# Altium integrated library STMicroelectronics STM32 F0.IntLib: 57 symbols (part 2 of 5)
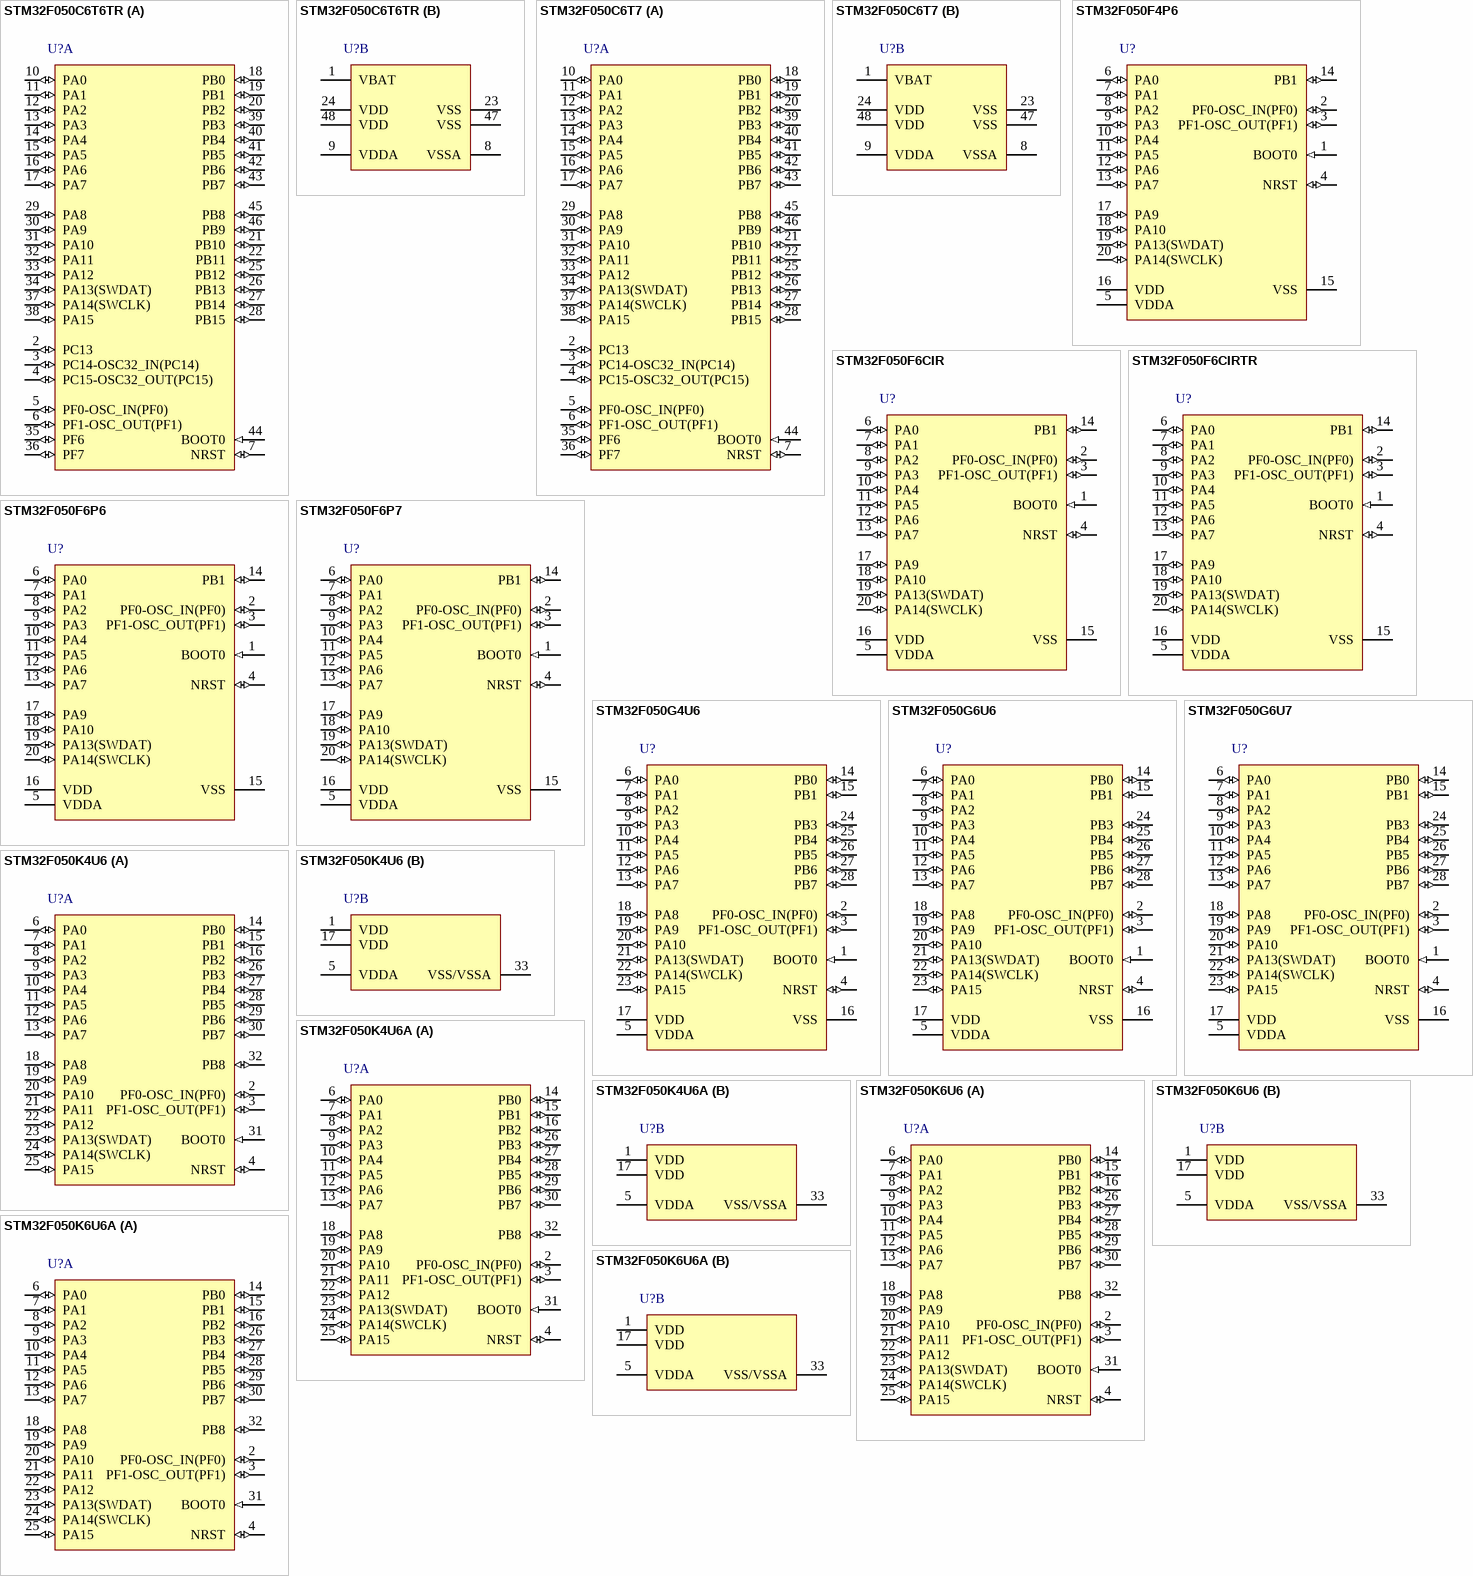
[diagram p6: symbols STM32F050C6T6TR to STM32F050K6U6A]

## STM32F050F6P6
designator U?
ARM Cortex-M0 32-bit MCU, 32 KB Flash, 4 KB Internal RAM, 15 I/Os, 20-pin TSSOP, -40 to 85 degC, Tube; PartNumber: STM32F050F6P6; FLASH Size (Prog) (kB): 32; I/Os (High Current): 15; Internal RAM Size (kB): 4; Operating Frequency(F) (Processor speed) (MHz): 48; Supply Voltage(Vcc) min (V): 2; DatasheetVersion: Rev. 1; PackageVersion: Rev. 1, 11/2012; PackageReference: TSSOP20; PackageDescription: 20-Pin Thin Shrink Small Outline Package, 6.5 x 4.4 mm Body, 0.65 mm Pitch; Supplier 1: Digi-Key; Supplier Part Number 1: STM32F050F6P6-ND; Supplier 2: Farnell; Supplier Part Number 2: 2333136; Supplier 3: Newark; Supplier Part Number 3: 99W9749; Supplier 4: Newark; Supplier Part Number 4: 89W1489; Supplier 5: Mouser; Supplier Part Number 5: 511-STM32F050F6P6; Core: ARM Cortex-M0; Packing: Tube; Mounting Technology: Surface Mount; ComponentLink1Description: Manufacturer URL; ComponentLink1URL: http://www.st.com/web/en/home.html; ComponentLink2Description: Datasheet; ComponentLink2URL: http://www.st.com/st-web-ui/static/active/en/resource/technical/document/datasheet/DM00065136.pdf; ComponentLink3Description: Package Specification; ComponentLink3URL: http://www.st.com/st-web-ui/static/active/en/resource/technical/document/datasheet/DM00065136.pdf
footprint STM-TSSOP20_N (SOP, 20-Leads, Body 6.6x4.5mm, Pitch 0.65mm, IPC Medium Density)
footprint STM-TSSOP20_L (SOP, 20-Leads, Body 6.6x4.5mm, Pitch 0.65mm, IPC High Density)
footprint STM-TSSOP20_M (SOP, 20-Leads, Body 6.6x4.5mm, Pitch 0.65mm, IPC Low Density)
pins: 1 BOOT0 (in) "Boot memory selection", 2 PF0-OSC_IN(PF0) (io) "PF0-OSC_IN(PF0)/OSC_IN", 3 PF1-OSC_OUT(PF1) (io) "PF1-OSC_OUT(PF1)/OSC_OUT", 4 NRST (io) "Device reset input / internal reset output (active low)", 5 VDDA (power) "Analog power supply", 6 PA0 (io) "PA0/TIM2_CH1_ETR,USART1_CTS/ADC_IN0,RTC_TAMP2,WKUP1", 7 PA1 (io) "PA1/TIM2_CH2,EVENTOUT,USART1_RTS/ADC_IN1", 8 PA2 (io) "PA2/TIM2_CH3,USART1_TX/ADC_IN2", 9 PA3 (io) "PA3/TIM2_CH4,USART1_RX/ADC_IN3", 10 PA4 (io) "PA4/SPI1_NSS,I2S1_WS,TIM14_CH1,USART1_CK/ADC_IN4", 11 PA5 (io) "PA5/SPI1_SCK,I2S1_CK,TIM2_CH1_ETR/ADC_IN5", 12 PA6 (io) "PA6/SPI1_MISO,I2S1_MCK,TIM3_CH1,TIM1_BKIN,TIM16_CH1,EVENTOUT/ADC_IN6", 13 PA7 (io) "PA7/SPI1_MOSI,I2S1_SD,TIM3_CH2,TIM14_CH1,TIM1_CH1N,TIM17_CH1,EVENTOUT/ADC_IN7", 14 PB1 (io) "PB1/TIM3_CH4,TIM14_CH1,TIM1_CH3N/ADC_IN9", 15 VSS (power) "Ground", 16 VDD (power) "Digital power supply", 17 PA9 (io) "PA9/USART1_TX,TIM1_CH2,I2C1_SCL", 18 PA10 (io) "PA10/USART1_RX,TIM1_CH3,TIM17_BKIN,I2C1_SDA", 19 PA13(SWDAT) (io) "PA13(SWDAT)/IR_OUT,SWDAT", 20 PA14(SWCLK) (io) "PA14(SWCLK)/SWCLK,USART1_TX"

## STM32F050F6P7
designator U?
ARM Cortex-M0 32-bit MCU, 32 KB Flash, 4 KB Internal RAM, 15 I/Os, 20-pin TSSOP, -40 to 105 degC, Tube; PartNumber: STM32F050F6P7; FLASH Size (Prog) (kB): 32; I/Os (High Current): 15; Internal RAM Size (kB): 4; Operating Frequency(F) (Processor speed) (MHz): 48; Supply Voltage(Vcc) min (V): 2; DatasheetVersion: Rev. 1; PackageVersion: Rev. 1, 11/2012; PackageReference: TSSOP20; PackageDescription: 20-Pin Thin Shrink Small Outline Package, 6.5 x 4.4 mm Body, 0.65 mm Pitch; Supplier 1: Newark; Supplier Part Number 1: 19X6195; Supplier 2: Mouser; Supplier Part Number 2: 511-STM32F050F6P7; Core: ARM Cortex-M0; Packing: Tube; Mounting Technology: Surface Mount; ComponentLink1Description: Manufacturer URL; ComponentLink1URL: http://www.st.com/web/en/home.html; ComponentLink2Description: Datasheet; ComponentLink2URL: http://www.st.com/st-web-ui/static/active/en/resource/technical/document/datasheet/DM00065136.pdf; ComponentLink3Description: Package Specification; ComponentLink3URL: http://www.st.com/st-web-ui/static/active/en/resource/technical/document/datasheet/DM00065136.pdf
footprint STM-TSSOP20_N (SOP, 20-Leads, Body 6.6x4.5mm, Pitch 0.65mm, IPC Medium Density)
footprint STM-TSSOP20_L (SOP, 20-Leads, Body 6.6x4.5mm, Pitch 0.65mm, IPC High Density)
footprint STM-TSSOP20_M (SOP, 20-Leads, Body 6.6x4.5mm, Pitch 0.65mm, IPC Low Density)
pins: 1 BOOT0 (in) "Boot memory selection", 2 PF0-OSC_IN(PF0) (io) "PF0-OSC_IN(PF0)/OSC_IN", 3 PF1-OSC_OUT(PF1) (io) "PF1-OSC_OUT(PF1)/OSC_OUT", 4 NRST (io) "Device reset input / internal reset output (active low)", 5 VDDA (power) "Analog power supply", 6 PA0 (io) "PA0/TIM2_CH1_ETR,USART1_CTS/ADC_IN0,RTC_TAMP2,WKUP1", 7 PA1 (io) "PA1/TIM2_CH2,EVENTOUT,USART1_RTS/ADC_IN1", 8 PA2 (io) "PA2/TIM2_CH3,USART1_TX/ADC_IN2", 9 PA3 (io) "PA3/TIM2_CH4,USART1_RX/ADC_IN3", 10 PA4 (io) "PA4/SPI1_NSS,I2S1_WS,TIM14_CH1,USART1_CK/ADC_IN4", 11 PA5 (io) "PA5/SPI1_SCK,I2S1_CK,TIM2_CH1_ETR/ADC_IN5", 12 PA6 (io) "PA6/SPI1_MISO,I2S1_MCK,TIM3_CH1,TIM1_BKIN,TIM16_CH1,EVENTOUT/ADC_IN6", 13 PA7 (io) "PA7/SPI1_MOSI,I2S1_SD,TIM3_CH2,TIM14_CH1,TIM1_CH1N,TIM17_CH1,EVENTOUT/ADC_IN7", 14 PB1 (io) "PB1/TIM3_CH4,TIM14_CH1,TIM1_CH3N/ADC_IN9", 15 VSS (power) "Ground", 16 VDD (power) "Digital power supply", 17 PA9 (io) "PA9/USART1_TX,TIM1_CH2,I2C1_SCL", 18 PA10 (io) "PA10/USART1_RX,TIM1_CH3,TIM17_BKIN,I2C1_SDA", 19 PA13(SWDAT) (io) "PA13(SWDAT)/IR_OUT,SWDAT", 20 PA14(SWCLK) (io) "PA14(SWCLK)/SWCLK,USART1_TX"

## STM32F050G4U6
designator U?
ARM Cortex-M0 32-bit MCU, 16 KB Flash, 4 KB Internal RAM, 23 I/Os, 28-pin UFQFPN, -40 to 85 degC, Tray; PartNumber: STM32F050G4U6; FLASH Size (Prog) (kB): 16; I/Os (High Current): 23; Internal RAM Size (kB): 4; Operating Frequency(F) (Processor speed) (MHz): 48; Supply Voltage(Vcc) min (V): 2; DatasheetVersion: Rev. 1; PackageVersion: Rev. 1, 11/2012; PackageReference: UFQFPN28; PackageDescription: 28-Pin Ultra Thin Fine Pitch Quad Flat No-Lead, 4 x 4 x 0.6 mm Body, 0.5 mm Pitch; Supplier 1: Digi-Key; Supplier Part Number 1: 497-13619-ND; Supplier 2: Farnell; Supplier Part Number 2: 2333137; Supplier 3: Newark; Supplier Part Number 3: 99W9750; Supplier 4: Newark; Supplier Part Number 4: 66W7272; Supplier 5: Mouser; Supplier Part Number 5: 511-STM32F050G4U6; Core: ARM Cortex-M0; Packing: Tray; Mounting Technology: Surface Mount; ComponentLink1Description: Manufacturer URL; ComponentLink1URL: http://www.st.com/web/en/home.html; ComponentLink2Description: Datasheet; ComponentLink2URL: http://www.st.com/st-web-ui/static/active/en/resource/technical/document/datasheet/DM00065136.pdf; ComponentLink3Description: Package Specification; ComponentLink3URL: http://www.st.com/st-web-ui/static/active/en/resource/technical/document/datasheet/DM00065136.pdf
footprint STM-UFQFPN28_V (QFN, 28-Leads, Body 4.1x4.1mm, Pitch 0.5mm)
pins: 1 BOOT0 (in) "Boot memory selection", 2 PF0-OSC_IN(PF0) (io) "PF0-OSC_IN(PF0)/OSC_IN", 3 PF1-OSC_OUT(PF1) (io) "PF1-OSC_OUT(PF1)/OSC_OUT", 4 NRST (io) "Device reset input / internal reset output (active low)", 5 VDDA (power) "Analog power supply", 6 PA0 (io) "PA0/TIM2_CH1_ETR,USART1_CTS/ADC_IN0,RTC_TAMP2,WKUP1", 7 PA1 (io) "PA1/TIM2_CH2,EVENTOUT,USART1_RTS/ADC_IN1", 8 PA2 (io) "PA2/TIM2_CH3,USART1_TX/ADC_IN2", 9 PA3 (io) "PA3/TIM2_CH4,USART1_RX/ADC_IN3", 10 PA4 (io) "PA4/SPI1_NSS,I2S1_WS,TIM14_CH1,USART1_CK/ADC_IN4", 11 PA5 (io) "PA5/SPI1_SCK,I2S1_CK,TIM2_CH1_ETR/ADC_IN5", 12 PA6 (io) "PA6/SPI1_MISO,I2S1_MCK,TIM3_CH1,TIM1_BKIN,TIM16_CH1,EVENTOUT/ADC_IN6", 13 PA7 (io) "PA7/SPI1_MOSI,I2S1_SD,TIM3_CH2,TIM14_CH1,TIM1_CH1N,TIM17_CH1,EVENTOUT/ADC_IN7", 14 PB0 (io) "PB0/TIM3_CH3,TIM1_CH2N,EVENTOUT/ADC_IN8", 15 PB1 (io) "PB1/TIM3_CH4,TIM14_CH1,TIM1_CH3N/ADC_IN9", 16 VSS (power) "Ground", 17 VDD (power) "Digital power supply", 18 PA8 (io) "PA8/USART1_CK,TIM1_CH1,EVENTOUT,MCO", 19 PA9 (io) "PA9/USART1_TX,TIM1_CH2,I2C1_SCL", 20 PA10 (io) "PA10/USART1_RX,TIM1_CH3,TIM17_BKIN,I2C1_SDA", 21 PA13(SWDAT) (io) "PA13(SWDAT)/IR_OUT,SWDAT", 22 PA14(SWCLK) (io) "PA14(SWCLK)/SWCLK,USART1_TX", 23 PA15 (io) "PA15/SPI1_NSS,I2S1_WS,TIM2_CH_ETR,EVENTOUT,USART1_RX", 24 PB3 (io) "PB3/SPI1_SCK,I2S1_CK,TIM2_CH2,EVENTOUT", 25 PB4 (io) "PB4/SPI1_MISO,I2S1_MCK,TIM3_CH1,EVENTOUT", 26 PB5 (io) "PB5/SPI1_MOSI,I2S1_SD,I2C1_SMBA,TIM16_BKIN,TIM3_CH2", 27 PB6 (io) "PB6/I2C1_SCL,USART1_TX,TIM16_CH1N", 28 PB7 (io) "PB7/I2C1_SDA,USART1_RX,TIM17_CH1N"

## STM32F050G6U6
designator U?
ARM Cortex-M0 32-bit MCU, 32 KB Flash, 4 KB Internal RAM, 23 I/Os, 28-pin UFQFPN, -40 to 85 degC, Tray; PartNumber: STM32F050G6U6; FLASH Size (Prog) (kB): 32; I/Os (High Current): 23; Internal RAM Size (kB): 4; Operating Frequency(F) (Processor speed) (MHz): 48; Supply Voltage(Vcc) min (V): 2; DatasheetVersion: Rev. 1; PackageVersion: Rev. 1, 11/2012; PackageReference: UFQFPN28; PackageDescription: 28-Pin Ultra Thin Fine Pitch Quad Flat No-Lead, 4 x 4 x 0.6 mm Body, 0.5 mm Pitch; Supplier 1: Digi-Key; Supplier Part Number 1: 497-13620-ND; Supplier 2: Farnell; Supplier Part Number 2: 2333138; Supplier 3: Newark; Supplier Part Number 3: 99W9751; Supplier 4: Newark; Supplier Part Number 4: 66W7273; Supplier 5: Mouser; Supplier Part Number 5: 511-STM32F050G6U6; Core: ARM Cortex-M0; Packing: Tray; Mounting Technology: Surface Mount; ComponentLink1Description: Manufacturer URL; ComponentLink1URL: http://www.st.com/web/en/home.html; ComponentLink2Description: Datasheet; ComponentLink2URL: http://www.st.com/st-web-ui/static/active/en/resource/technical/document/datasheet/DM00065136.pdf; ComponentLink3Description: Package Specification; ComponentLink3URL: http://www.st.com/st-web-ui/static/active/en/resource/technical/document/datasheet/DM00065136.pdf
footprint STM-UFQFPN28_V (QFN, 28-Leads, Body 4.1x4.1mm, Pitch 0.5mm)
pins: 1 BOOT0 (in) "Boot memory selection", 2 PF0-OSC_IN(PF0) (io) "PF0-OSC_IN(PF0)/OSC_IN", 3 PF1-OSC_OUT(PF1) (io) "PF1-OSC_OUT(PF1)/OSC_OUT", 4 NRST (io) "Device reset input / internal reset output (active low)", 5 VDDA (power) "Analog power supply", 6 PA0 (io) "PA0/TIM2_CH1_ETR,USART1_CTS/ADC_IN0,RTC_TAMP2,WKUP1", 7 PA1 (io) "PA1/TIM2_CH2,EVENTOUT,USART1_RTS/ADC_IN1", 8 PA2 (io) "PA2/TIM2_CH3,USART1_TX/ADC_IN2", 9 PA3 (io) "PA3/TIM2_CH4,USART1_RX/ADC_IN3", 10 PA4 (io) "PA4/SPI1_NSS,I2S1_WS,TIM14_CH1,USART1_CK/ADC_IN4", 11 PA5 (io) "PA5/SPI1_SCK,I2S1_CK,TIM2_CH1_ETR/ADC_IN5", 12 PA6 (io) "PA6/SPI1_MISO,I2S1_MCK,TIM3_CH1,TIM1_BKIN,TIM16_CH1,EVENTOUT/ADC_IN6", 13 PA7 (io) "PA7/SPI1_MOSI,I2S1_SD,TIM3_CH2,TIM14_CH1,TIM1_CH1N,TIM17_CH1,EVENTOUT/ADC_IN7", 14 PB0 (io) "PB0/TIM3_CH3,TIM1_CH2N,EVENTOUT/ADC_IN8", 15 PB1 (io) "PB1/TIM3_CH4,TIM14_CH1,TIM1_CH3N/ADC_IN9", 16 VSS (power) "Ground", 17 VDD (power) "Digital power supply", 18 PA8 (io) "PA8/USART1_CK,TIM1_CH1,EVENTOUT,MCO", 19 PA9 (io) "PA9/USART1_TX,TIM1_CH2,I2C1_SCL", 20 PA10 (io) "PA10/USART1_RX,TIM1_CH3,TIM17_BKIN,I2C1_SDA", 21 PA13(SWDAT) (io) "PA13(SWDAT)/IR_OUT,SWDAT", 22 PA14(SWCLK) (io) "PA14(SWCLK)/SWCLK,USART1_TX", 23 PA15 (io) "PA15/SPI1_NSS,I2S1_WS,TIM2_CH_ETR,EVENTOUT,USART1_RX", 24 PB3 (io) "PB3/SPI1_SCK,I2S1_CK,TIM2_CH2,EVENTOUT", 25 PB4 (io) "PB4/SPI1_MISO,I2S1_MCK,TIM3_CH1,EVENTOUT", 26 PB5 (io) "PB5/SPI1_MOSI,I2S1_SD,I2C1_SMBA,TIM16_BKIN,TIM3_CH2", 27 PB6 (io) "PB6/I2C1_SCL,USART1_TX,TIM16_CH1N", 28 PB7 (io) "PB7/I2C1_SDA,USART1_RX,TIM17_CH1N"

## STM32F050G6U7
designator U?
ARM Cortex-M0 32-bit MCU, 32 KB Flash, 4 KB Internal RAM, 23 I/Os, 28-pin UFQFPN, -40 to 105 degC, Tray; PartNumber: STM32F050G6U7; FLASH Size (Prog) (kB): 32; I/Os (High Current): 23; Internal RAM Size (kB): 4; Operating Frequency(F) (Processor speed) (MHz): 48; Supply Voltage(Vcc) min (V): 2; DatasheetVersion: Rev. 1; PackageVersion: Rev. 1, 11/2012; PackageReference: UFQFPN28; PackageDescription: 28-Pin Ultra Thin Fine Pitch Quad Flat No-Lead, 4 x 4 x 0.6 mm Body, 0.5 mm Pitch; Supplier 1: Mouser; Supplier Part Number 1: N/A; Core: ARM Cortex-M0; Packing: Tray; Mounting Technology: Surface Mount; ComponentLink1Description: Manufacturer URL; ComponentLink1URL: http://www.st.com/web/en/home.html; ComponentLink2Description: Datasheet; ComponentLink2URL: http://www.st.com/st-web-ui/static/active/en/resource/technical/document/datasheet/DM00065136.pdf; ComponentLink3Description: Package Specification; ComponentLink3URL: http://www.st.com/st-web-ui/static/active/en/resource/technical/document/datasheet/DM00065136.pdf
footprint STM-UFQFPN28_V (QFN, 28-Leads, Body 4.1x4.1mm, Pitch 0.5mm)
pins: 1 BOOT0 (in) "Boot memory selection", 2 PF0-OSC_IN(PF0) (io) "PF0-OSC_IN(PF0)/OSC_IN", 3 PF1-OSC_OUT(PF1) (io) "PF1-OSC_OUT(PF1)/OSC_OUT", 4 NRST (io) "Device reset input / internal reset output (active low)", 5 VDDA (power) "Analog power supply", 6 PA0 (io) "PA0/TIM2_CH1_ETR,USART1_CTS/ADC_IN0,RTC_TAMP2,WKUP1", 7 PA1 (io) "PA1/TIM2_CH2,EVENTOUT,USART1_RTS/ADC_IN1", 8 PA2 (io) "PA2/TIM2_CH3,USART1_TX/ADC_IN2", 9 PA3 (io) "PA3/TIM2_CH4,USART1_RX/ADC_IN3", 10 PA4 (io) "PA4/SPI1_NSS,I2S1_WS,TIM14_CH1,USART1_CK/ADC_IN4", 11 PA5 (io) "PA5/SPI1_SCK,I2S1_CK,TIM2_CH1_ETR/ADC_IN5", 12 PA6 (io) "PA6/SPI1_MISO,I2S1_MCK,TIM3_CH1,TIM1_BKIN,TIM16_CH1,EVENTOUT/ADC_IN6", 13 PA7 (io) "PA7/SPI1_MOSI,I2S1_SD,TIM3_CH2,TIM14_CH1,TIM1_CH1N,TIM17_CH1,EVENTOUT/ADC_IN7", 14 PB0 (io) "PB0/TIM3_CH3,TIM1_CH2N,EVENTOUT/ADC_IN8", 15 PB1 (io) "PB1/TIM3_CH4,TIM14_CH1,TIM1_CH3N/ADC_IN9", 16 VSS (power) "Ground", 17 VDD (power) "Digital power supply", 18 PA8 (io) "PA8/USART1_CK,TIM1_CH1,EVENTOUT,MCO", 19 PA9 (io) "PA9/USART1_TX,TIM1_CH2,I2C1_SCL", 20 PA10 (io) "PA10/USART1_RX,TIM1_CH3,TIM17_BKIN,I2C1_SDA", 21 PA13(SWDAT) (io) "PA13(SWDAT)/IR_OUT,SWDAT", 22 PA14(SWCLK) (io) "PA14(SWCLK)/SWCLK,USART1_TX", 23 PA15 (io) "PA15/SPI1_NSS,I2S1_WS,TIM2_CH_ETR,EVENTOUT,USART1_RX", 24 PB3 (io) "PB3/SPI1_SCK,I2S1_CK,TIM2_CH2,EVENTOUT", 25 PB4 (io) "PB4/SPI1_MISO,I2S1_MCK,TIM3_CH1,EVENTOUT", 26 PB5 (io) "PB5/SPI1_MOSI,I2S1_SD,I2C1_SMBA,TIM16_BKIN,TIM3_CH2", 27 PB6 (io) "PB6/I2C1_SCL,USART1_TX,TIM16_CH1N", 28 PB7 (io) "PB7/I2C1_SDA,USART1_RX,TIM17_CH1N"

## STM32F050K4U6
designator U?
ARM Cortex-M0 32-bit MCU, 16 KB Flash, 4 KB Internal RAM, 27 I/Os, 32-pin UFQFPN, -40 to 85 degC, Tray; PartNumber: STM32F050K4U6; FLASH Size (Prog) (kB): 16; I/Os (High Current): 27; Internal RAM Size (kB): 4; Operating Frequency(F) (Processor speed) (MHz): 48; Supply Voltage(Vcc) min (V): 2; DatasheetVersion: Rev. 1; PackageVersion: Rev. 3, 07/2012; PackageReference: UFQFPN32; PackageDescription: 32-Pin Ultra Thin Fine Pitch Quad Flat No-Lead, 5 x 5 x 0.6 mm Body, 0.5 mm Pitch, Exposed Pad; Supplier 1: Digi-Key; Supplier Part Number 1: 497-13621-ND; Supplier 2: Farnell; Supplier Part Number 2: 2333139; Supplier 3: Newark; Supplier Part Number 3: 99W9752; Supplier 4: Newark; Supplier Part Number 4: 48W6864; Supplier 5: Mouser; Supplier Part Number 5: 511-STM32F050K4U6; Core: ARM Cortex-M0; Packing: Tray; Mounting Technology: Surface Mount; ComponentLink1Description: Manufacturer URL; ComponentLink1URL: http://www.st.com/web/en/home.html; ComponentLink2Description: Datasheet; ComponentLink2URL: http://www.st.com/st-web-ui/static/active/en/resource/technical/document/datasheet/DM00065136.pdf; ComponentLink3Description: Package Specification; ComponentLink3URL: http://www.st.com/st-web-ui/static/active/en/resource/technical/document/datasheet/DM00039193.pdf
footprint STM-UFQFPN32_N (QFN, 32-Leads, Body 5.1x5.1mm, Pitch 0.5mm, Thermal Pad 3.5x3.5mm, IPC Medium Density)
footprint STM-UFQFPN32_L (QFN, 32-Leads, Body 5.1x5.1mm, Pitch 0.5mm, Thermal Pad 3.5x3.5mm, IPC High Density)
footprint STM-UFQFPN32_M (QFN, 32-Leads, Body 5.1x5.1mm, Pitch 0.5mm, Thermal Pad 3.5x3.5mm, IPC Low Density)
part A pins: 2 PF0-OSC_IN(PF0) (io) "PF0-OSC_IN(PF0)/OSC_IN", 3 PF1-OSC_OUT(PF1) (io) "PF1-OSC_OUT(PF1)/OSC_OUT", 4 NRST (io) "Device reset input / internal reset output (active low)", 6 PA0 (io) "PA0/TIM2_CH1_ETR,USART1_CTS/ADC_IN0,RTC_TAMP2,WKUP1", 7 PA1 (io) "PA1/TIM2_CH2,EVENTOUT,USART1_RTS/ADC_IN1", 8 PA2 (io) "PA2/TIM2_CH3,USART1_TX/ADC_IN2", 9 PA3 (io) "PA3/TIM2_CH4,USART1_RX/ADC_IN3", 10 PA4 (io) "PA4/SPI1_NSS,I2S1_WS,TIM14_CH1,USART1_CK/ADC_IN4", 11 PA5 (io) "PA5/SPI1_SCK,I2S1_CK,TIM2_CH1_ETR/ADC_IN5", 12 PA6 (io) "PA6/SPI1_MISO,I2S1_MCK,TIM3_CH1,TIM1_BKIN,TIM16_CH1,EVENTOUT/ADC_IN6", 13 PA7 (io) "PA7/SPI1_MOSI,I2S1_SD,TIM3_CH2,TIM14_CH1,TIM1_CH1N,TIM17_CH1,EVENTOUT/ADC_IN7", 14 PB0 (io) "PB0/TIM3_CH3,TIM1_CH2N,EVENTOUT/ADC_IN8", 15 PB1 (io) "PB1/TIM3_CH4,TIM14_CH1,TIM1_CH3N/ADC_IN9", 16 PB2 (io), 18 PA8 (io) "PA8/USART1_CK,TIM1_CH1,EVENTOUT,MCO", 19 PA9 (io) "PA9/USART1_TX,TIM1_CH2,I2C1_SCL", 20 PA10 (io) "PA10/USART1_RX,TIM1_CH3,TIM17_BKIN,I2C1_SDA", 21 PA11 (io) "PA11/USART1_CTS,TIM1_CH4,EVENTOUT", 22 PA12 (io) "PA12/USART1_RTS,TIM1_ETR,EVENTOUT", 23 PA13(SWDAT) (io) "PA13(SWDAT)/IR_OUT,SWDAT", 24 PA14(SWCLK) (io) "PA14(SWCLK)/SWCLK,USART1_TX", 25 PA15 (io) "PA15/SPI1_NSS,I2S1_WS,TIM2_CH_ETR,EVENTOUT,USART1_RX", 26 PB3 (io) "PB3/SPI1_SCK,I2S1_CK,TIM2_CH2,EVENTOUT", 27 PB4 (io) "PB4/SPI1_MISO,I2S1_MCK,TIM3_CH1,EVENTOUT", 28 PB5 (io) "PB5/SPI1_MOSI,I2S1_SD,I2C1_SMBA,TIM16_BKIN,TIM3_CH2", 29 PB6 (io) "PB6/I2C1_SCL,USART1_TX,TIM16_CH1N", 30 PB7 (io) "PB7/I2C1_SDA,USART1_RX,TIM17_CH1N", 31 BOOT0 (in) "Boot memory selection", 32 PB8 (io) "PB8/I2C1_SCL,TIM16_CH1"
part B pins: 1 VDD (power) "Digital power supply", 5 VDDA (power) "Analog power supply", 17 VDD (power) "Digital power supply", 33 VSS/VSSA (power)

## STM32F050K4U6A
designator U?
ARM Cortex-M0 32-bit MCU, 16 KB Flash, 4 KB Internal RAM, 27 I/Os, 32-pin UFQFPN, -40 to 85 degC, Tray; PartNumber: STM32F050K4U6A; FLASH Size (Prog) (kB): 16; I/Os (High Current): 27; Internal RAM Size (kB): 4; Operating Frequency(F) (Processor speed) (MHz): 48; Supply Voltage(Vcc) min (V): 2; DatasheetVersion: Rev. 1; PackageVersion: Rev. 3, 07/2012; PackageReference: UFQFPN32; PackageDescription: 32-Pin Ultra Thin Fine Pitch Quad Flat No-Lead, 5 x 5 x 0.6 mm Body, 0.5 mm Pitch, Exposed Pad; Supplier 1: Digi-Key; Supplier Part Number 1: 497-12945-ND; Supplier 2: Farnell; Supplier Part Number 2: 2115060; Supplier 3: Newark; Supplier Part Number 3: 05W5798; Supplier 4: Newark; Supplier Part Number 4: 90T0647; Supplier 5: Mouser; Supplier Part Number 5: 511-STM32F050K4U6A; Core: ARM Cortex-M0; Packing: Tray; Mounting Technology: Surface Mount; ComponentLink1Description: Manufacturer URL; ComponentLink1URL: http://www.st.com/web/en/home.html; ComponentLink2Description: Datasheet; ComponentLink2URL: http://www.st.com/st-web-ui/static/active/en/resource/technical/document/datasheet/DM00065136.pdf; ComponentLink3Description: Package Specification; ComponentLink3URL: http://www.st.com/st-web-ui/static/active/en/resource/technical/document/datasheet/DM00039193.pdf
footprint STM-UFQFPN32_N (QFN, 32-Leads, Body 5.1x5.1mm, Pitch 0.5mm, Thermal Pad 3.5x3.5mm, IPC Medium Density)
footprint STM-UFQFPN32_L (QFN, 32-Leads, Body 5.1x5.1mm, Pitch 0.5mm, Thermal Pad 3.5x3.5mm, IPC High Density)
footprint STM-UFQFPN32_M (QFN, 32-Leads, Body 5.1x5.1mm, Pitch 0.5mm, Thermal Pad 3.5x3.5mm, IPC Low Density)
part A pins: 2 PF0-OSC_IN(PF0) (io) "PF0-OSC_IN(PF0)/OSC_IN", 3 PF1-OSC_OUT(PF1) (io) "PF1-OSC_OUT(PF1)/OSC_OUT", 4 NRST (io) "Device reset input / internal reset output (active low)", 6 PA0 (io) "PA0/TIM2_CH1_ETR,USART1_CTS/ADC_IN0,RTC_TAMP2,WKUP1", 7 PA1 (io) "PA1/TIM2_CH2,EVENTOUT,USART1_RTS/ADC_IN1", 8 PA2 (io) "PA2/TIM2_CH3,USART1_TX/ADC_IN2", 9 PA3 (io) "PA3/TIM2_CH4,USART1_RX/ADC_IN3", 10 PA4 (io) "PA4/SPI1_NSS,I2S1_WS,TIM14_CH1,USART1_CK/ADC_IN4", 11 PA5 (io) "PA5/SPI1_SCK,I2S1_CK,TIM2_CH1_ETR/ADC_IN5", 12 PA6 (io) "PA6/SPI1_MISO,I2S1_MCK,TIM3_CH1,TIM1_BKIN,TIM16_CH1,EVENTOUT/ADC_IN6", 13 PA7 (io) "PA7/SPI1_MOSI,I2S1_SD,TIM3_CH2,TIM14_CH1,TIM1_CH1N,TIM17_CH1,EVENTOUT/ADC_IN7", 14 PB0 (io) "PB0/TIM3_CH3,TIM1_CH2N,EVENTOUT/ADC_IN8", 15 PB1 (io) "PB1/TIM3_CH4,TIM14_CH1,TIM1_CH3N/ADC_IN9", 16 PB2 (io), 18 PA8 (io) "PA8/USART1_CK,TIM1_CH1,EVENTOUT,MCO", 19 PA9 (io) "PA9/USART1_TX,TIM1_CH2,I2C1_SCL", 20 PA10 (io) "PA10/USART1_RX,TIM1_CH3,TIM17_BKIN,I2C1_SDA", 21 PA11 (io) "PA11/USART1_CTS,TIM1_CH4,EVENTOUT", 22 PA12 (io) "PA12/USART1_RTS,TIM1_ETR,EVENTOUT", 23 PA13(SWDAT) (io) "PA13(SWDAT)/IR_OUT,SWDAT", 24 PA14(SWCLK) (io) "PA14(SWCLK)/SWCLK,USART1_TX", 25 PA15 (io) "PA15/SPI1_NSS,I2S1_WS,TIM2_CH_ETR,EVENTOUT,USART1_RX", 26 PB3 (io) "PB3/SPI1_SCK,I2S1_CK,TIM2_CH2,EVENTOUT", 27 PB4 (io) "PB4/SPI1_MISO,I2S1_MCK,TIM3_CH1,EVENTOUT", 28 PB5 (io) "PB5/SPI1_MOSI,I2S1_SD,I2C1_SMBA,TIM16_BKIN,TIM3_CH2", 29 PB6 (io) "PB6/I2C1_SCL,USART1_TX,TIM16_CH1N", 30 PB7 (io) "PB7/I2C1_SDA,USART1_RX,TIM17_CH1N", 31 BOOT0 (in) "Boot memory selection", 32 PB8 (io) "PB8/I2C1_SCL,TIM16_CH1"
part B pins: 1 VDD (power) "Digital power supply", 5 VDDA (power) "Analog power supply", 17 VDD (power) "Digital power supply", 33 VSS/VSSA (power)

## STM32F050K6U6
designator U?
ARM Cortex-M0 32-bit MCU, 32 KB Flash, 4 KB Internal RAM, 27 I/Os, 32-pin UFQFPN, -40 to 85 degC, Tray; PartNumber: STM32F050K6U6; FLASH Size (Prog) (kB): 32; I/Os (High Current): 27; Internal RAM Size (kB): 4; Operating Frequency(F) (Processor speed) (MHz): 48; Supply Voltage(Vcc) min (V): 2; DatasheetVersion: Rev. 1; PackageVersion: Rev. 3, 07/2012; PackageReference: UFQFPN32; PackageDescription: 32-Pin Ultra Thin Fine Pitch Quad Flat No-Lead, 5 x 5 x 0.6 mm Body, 0.5 mm Pitch, Exposed Pad; Supplier 1: Digi-Key; Supplier Part Number 1: 497-13622-ND; Supplier 2: Farnell; Supplier Part Number 2: 2333140; Supplier 3: Newark; Supplier Part Number 3: 99W9753; Supplier 4: Newark; Supplier Part Number 4: 48W6865; Supplier 5: Mouser; Supplier Part Number 5: 511-STM32F050K6U6; Core: ARM Cortex-M0; Packing: Tray; Mounting Technology: Surface Mount; ComponentLink1Description: Manufacturer URL; ComponentLink1URL: http://www.st.com/web/en/home.html; ComponentLink2Description: Datasheet; ComponentLink2URL: http://www.st.com/st-web-ui/static/active/en/resource/technical/document/datasheet/DM00065136.pdf; ComponentLink3Description: Package Specification; ComponentLink3URL: http://www.st.com/st-web-ui/static/active/en/resource/technical/document/datasheet/DM00039193.pdf
footprint STM-UFQFPN32_N (QFN, 32-Leads, Body 5.1x5.1mm, Pitch 0.5mm, Thermal Pad 3.5x3.5mm, IPC Medium Density)
footprint STM-UFQFPN32_L (QFN, 32-Leads, Body 5.1x5.1mm, Pitch 0.5mm, Thermal Pad 3.5x3.5mm, IPC High Density)
footprint STM-UFQFPN32_M (QFN, 32-Leads, Body 5.1x5.1mm, Pitch 0.5mm, Thermal Pad 3.5x3.5mm, IPC Low Density)
part A pins: 2 PF0-OSC_IN(PF0) (io) "PF0-OSC_IN(PF0)/OSC_IN", 3 PF1-OSC_OUT(PF1) (io) "PF1-OSC_OUT(PF1)/OSC_OUT", 4 NRST (io) "Device reset input / internal reset output (active low)", 6 PA0 (io) "PA0/TIM2_CH1_ETR,USART1_CTS/ADC_IN0,RTC_TAMP2,WKUP1", 7 PA1 (io) "PA1/TIM2_CH2,EVENTOUT,USART1_RTS/ADC_IN1", 8 PA2 (io) "PA2/TIM2_CH3,USART1_TX/ADC_IN2", 9 PA3 (io) "PA3/TIM2_CH4,USART1_RX/ADC_IN3", 10 PA4 (io) "PA4/SPI1_NSS,I2S1_WS,TIM14_CH1,USART1_CK/ADC_IN4", 11 PA5 (io) "PA5/SPI1_SCK,I2S1_CK,TIM2_CH1_ETR/ADC_IN5", 12 PA6 (io) "PA6/SPI1_MISO,I2S1_MCK,TIM3_CH1,TIM1_BKIN,TIM16_CH1,EVENTOUT/ADC_IN6", 13 PA7 (io) "PA7/SPI1_MOSI,I2S1_SD,TIM3_CH2,TIM14_CH1,TIM1_CH1N,TIM17_CH1,EVENTOUT/ADC_IN7", 14 PB0 (io) "PB0/TIM3_CH3,TIM1_CH2N,EVENTOUT/ADC_IN8", 15 PB1 (io) "PB1/TIM3_CH4,TIM14_CH1,TIM1_CH3N/ADC_IN9", 16 PB2 (io), 18 PA8 (io) "PA8/USART1_CK,TIM1_CH1,EVENTOUT,MCO", 19 PA9 (io) "PA9/USART1_TX,TIM1_CH2,I2C1_SCL", 20 PA10 (io) "PA10/USART1_RX,TIM1_CH3,TIM17_BKIN,I2C1_SDA", 21 PA11 (io) "PA11/USART1_CTS,TIM1_CH4,EVENTOUT", 22 PA12 (io) "PA12/USART1_RTS,TIM1_ETR,EVENTOUT", 23 PA13(SWDAT) (io) "PA13(SWDAT)/IR_OUT,SWDAT", 24 PA14(SWCLK) (io) "PA14(SWCLK)/SWCLK,USART1_TX", 25 PA15 (io) "PA15/SPI1_NSS,I2S1_WS,TIM2_CH_ETR,EVENTOUT,USART1_RX", 26 PB3 (io) "PB3/SPI1_SCK,I2S1_CK,TIM2_CH2,EVENTOUT", 27 PB4 (io) "PB4/SPI1_MISO,I2S1_MCK,TIM3_CH1,EVENTOUT", 28 PB5 (io) "PB5/SPI1_MOSI,I2S1_SD,I2C1_SMBA,TIM16_BKIN,TIM3_CH2", 29 PB6 (io) "PB6/I2C1_SCL,USART1_TX,TIM16_CH1N", 30 PB7 (io) "PB7/I2C1_SDA,USART1_RX,TIM17_CH1N", 31 BOOT0 (in) "Boot memory selection", 32 PB8 (io) "PB8/I2C1_SCL,TIM16_CH1"
part B pins: 1 VDD (power) "Digital power supply", 5 VDDA (power) "Analog power supply", 17 VDD (power) "Digital power supply", 33 VSS/VSSA (power)

## STM32F050K6U6A
designator U?
ARM Cortex-M0 32-bit MCU, 32 KB Flash, 4 KB Internal RAM, 27 I/Os, 32-pin UFQFPN, -40 to 85 degC, Tray; PartNumber: STM32F050K6U6A; FLASH Size (Prog) (kB): 32; I/Os (High Current): 27; Internal RAM Size (kB): 4; Operating Frequency(F) (Processor speed) (MHz): 48; Supply Voltage(Vcc) min (V): 2; DatasheetVersion: Rev. 1; PackageVersion: Rev. 3, 07/2012; PackageReference: UFQFPN32; PackageDescription: 32-Pin Ultra Thin Fine Pitch Quad Flat No-Lead, 5 x 5 x 0.6 mm Body, 0.5 mm Pitch, Exposed Pad; Supplier 1: Digi-Key; Supplier Part Number 1: 497-12946-ND; Supplier 2: Farnell; Supplier Part Number 2: 2115061; Supplier 3: Newark; Supplier Part Number 3: 05W5799; Supplier 4: Mouser; Supplier Part Number 4: 511-STM32F050K6U6A; Core: ARM Cortex-M0; Packing: Tray; Mounting Technology: Surface Mount; ComponentLink1Description: Manufacturer URL; ComponentLink1URL: http://www.st.com/web/en/home.html; ComponentLink2Description: Datasheet; ComponentLink2URL: http://www.st.com/st-web-ui/static/active/en/resource/technical/document/datasheet/DM00065136.pdf; ComponentLink3Description: Package Specification; ComponentLink3URL: http://www.st.com/st-web-ui/static/active/en/resource/technical/document/datasheet/DM00039193.pdf
footprint STM-UFQFPN32_N (QFN, 32-Leads, Body 5.1x5.1mm, Pitch 0.5mm, Thermal Pad 3.5x3.5mm, IPC Medium Density)
footprint STM-UFQFPN32_L (QFN, 32-Leads, Body 5.1x5.1mm, Pitch 0.5mm, Thermal Pad 3.5x3.5mm, IPC High Density)
footprint STM-UFQFPN32_M (QFN, 32-Leads, Body 5.1x5.1mm, Pitch 0.5mm, Thermal Pad 3.5x3.5mm, IPC Low Density)
part A pins: 2 PF0-OSC_IN(PF0) (io) "PF0-OSC_IN(PF0)/OSC_IN", 3 PF1-OSC_OUT(PF1) (io) "PF1-OSC_OUT(PF1)/OSC_OUT", 4 NRST (io) "Device reset input / internal reset output (active low)", 6 PA0 (io) "PA0/TIM2_CH1_ETR,USART1_CTS/ADC_IN0,RTC_TAMP2,WKUP1", 7 PA1 (io) "PA1/TIM2_CH2,EVENTOUT,USART1_RTS/ADC_IN1", 8 PA2 (io) "PA2/TIM2_CH3,USART1_TX/ADC_IN2", 9 PA3 (io) "PA3/TIM2_CH4,USART1_RX/ADC_IN3", 10 PA4 (io) "PA4/SPI1_NSS,I2S1_WS,TIM14_CH1,USART1_CK/ADC_IN4", 11 PA5 (io) "PA5/SPI1_SCK,I2S1_CK,TIM2_CH1_ETR/ADC_IN5", 12 PA6 (io) "PA6/SPI1_MISO,I2S1_MCK,TIM3_CH1,TIM1_BKIN,TIM16_CH1,EVENTOUT/ADC_IN6", 13 PA7 (io) "PA7/SPI1_MOSI,I2S1_SD,TIM3_CH2,TIM14_CH1,TIM1_CH1N,TIM17_CH1,EVENTOUT/ADC_IN7", 14 PB0 (io) "PB0/TIM3_CH3,TIM1_CH2N,EVENTOUT/ADC_IN8", 15 PB1 (io) "PB1/TIM3_CH4,TIM14_CH1,TIM1_CH3N/ADC_IN9", 16 PB2 (io), 18 PA8 (io) "PA8/USART1_CK,TIM1_CH1,EVENTOUT,MCO", 19 PA9 (io) "PA9/USART1_TX,TIM1_CH2,I2C1_SCL", 20 PA10 (io) "PA10/USART1_RX,TIM1_CH3,TIM17_BKIN,I2C1_SDA", 21 PA11 (io) "PA11/USART1_CTS,TIM1_CH4,EVENTOUT", 22 PA12 (io) "PA12/USART1_RTS,TIM1_ETR,EVENTOUT", 23 PA13(SWDAT) (io) "PA13(SWDAT)/IR_OUT,SWDAT", 24 PA14(SWCLK) (io) "PA14(SWCLK)/SWCLK,USART1_TX", 25 PA15 (io) "PA15/SPI1_NSS,I2S1_WS,TIM2_CH_ETR,EVENTOUT,USART1_RX", 26 PB3 (io) "PB3/SPI1_SCK,I2S1_CK,TIM2_CH2,EVENTOUT", 27 PB4 (io) "PB4/SPI1_MISO,I2S1_MCK,TIM3_CH1,EVENTOUT", 28 PB5 (io) "PB5/SPI1_MOSI,I2S1_SD,I2C1_SMBA,TIM16_BKIN,TIM3_CH2", 29 PB6 (io) "PB6/I2C1_SCL,USART1_TX,TIM16_CH1N", 30 PB7 (io) "PB7/I2C1_SDA,USART1_RX,TIM17_CH1N", 31 BOOT0 (in) "Boot memory selection", 32 PB8 (io) "PB8/I2C1_SCL,TIM16_CH1"
part B pins: 1 VDD (power) "Digital power supply", 5 VDDA (power) "Analog power supply", 17 VDD (power) "Digital power supply", 33 VSS/VSSA (power)

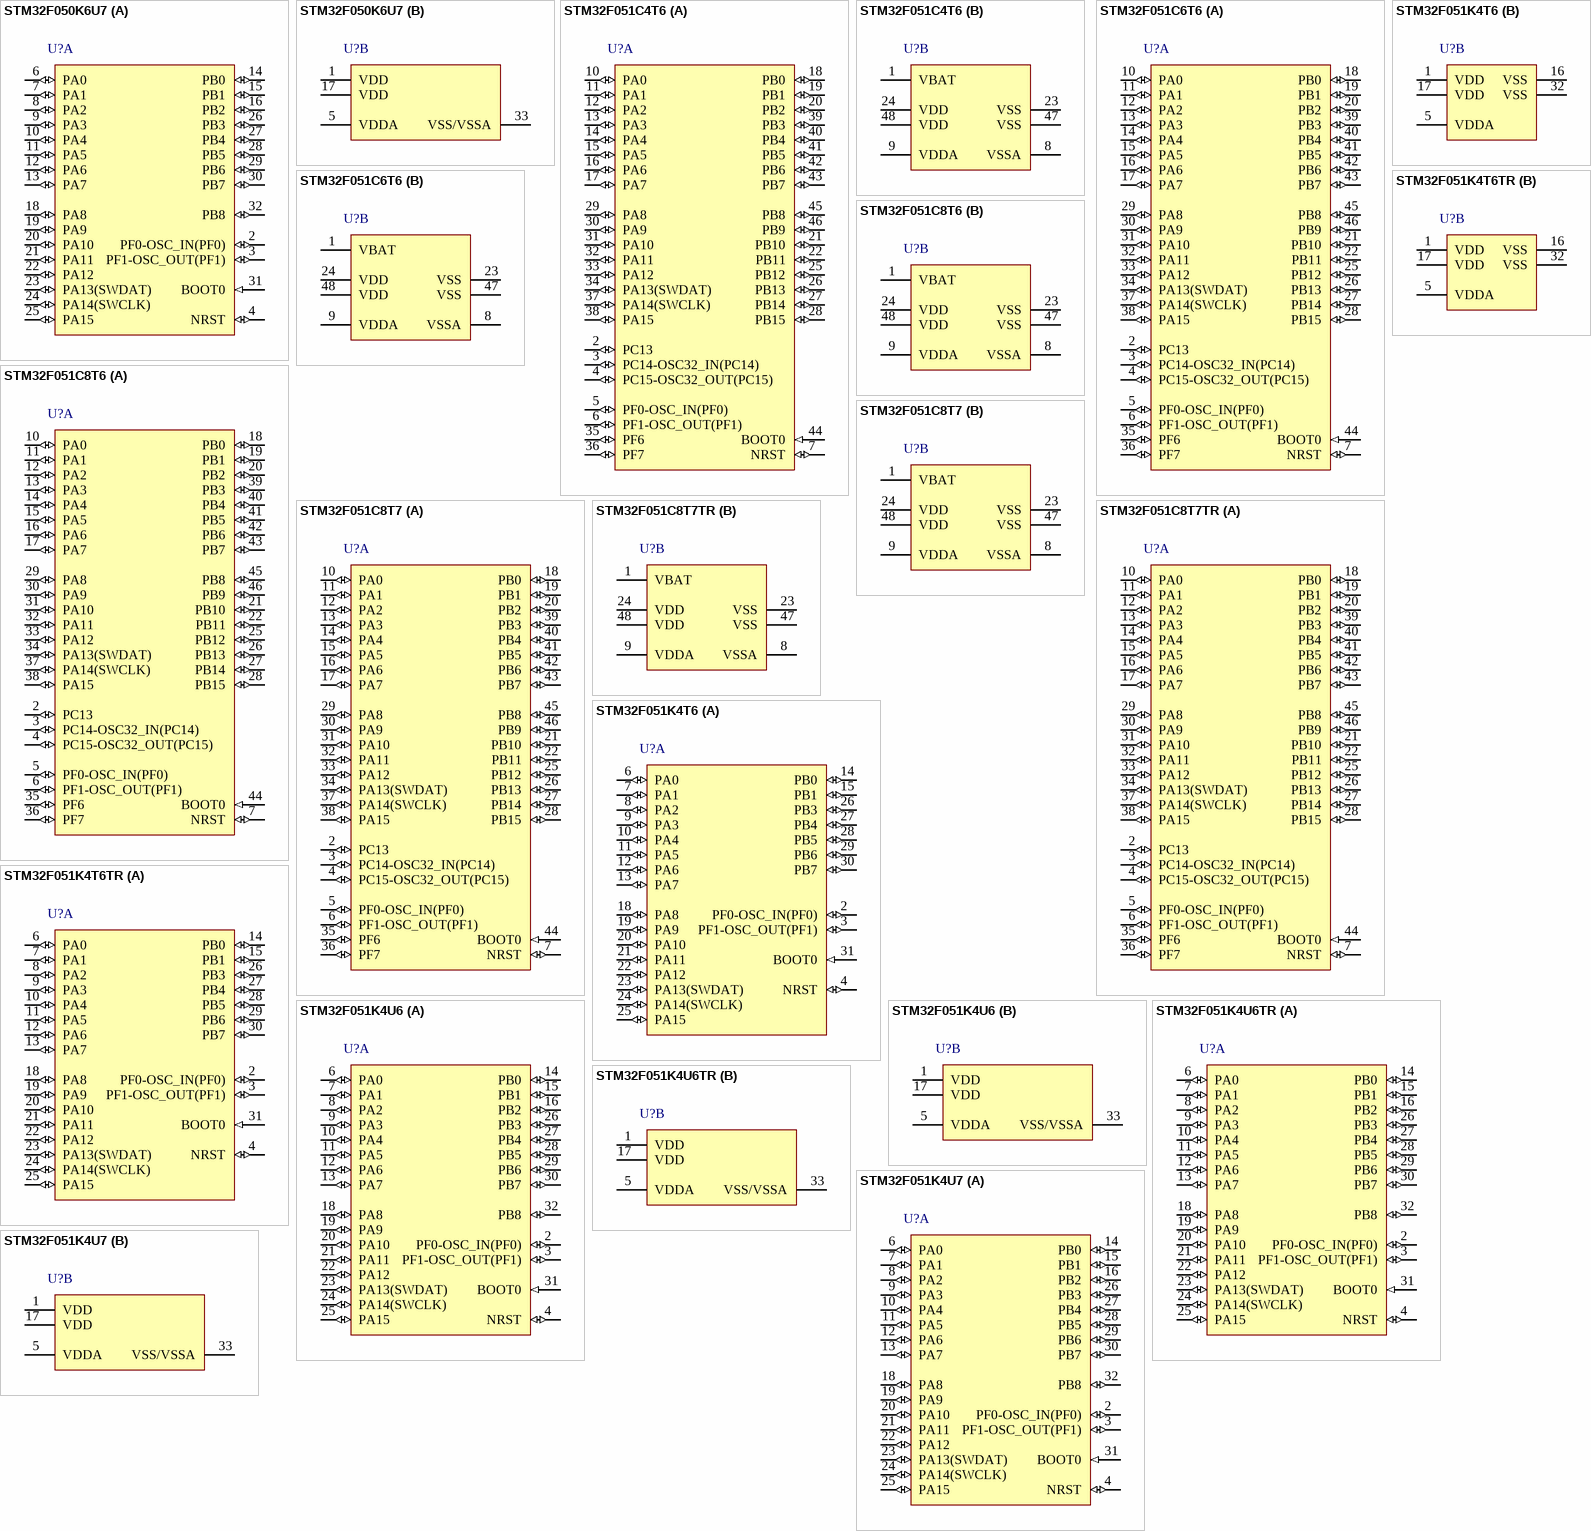
[diagram p2: symbols STM32F050K6U7 to STM32F051K4U7]

## STM32F050K6U7
designator U?
ARM Cortex-M0 32-bit MCU, 32 KB Flash, 4 KB Internal RAM, 27 I/Os, 32-pin UFQFPN, -40 to 105 degC, Tray; PartNumber: STM32F050K6U7; FLASH Size (Prog) (kB): 32; I/Os (High Current): 27; Internal RAM Size (kB): 4; Operating Frequency(F) (Processor speed) (MHz): 48; Supply Voltage(Vcc) min (V): 2; DatasheetVersion: Rev. 1; PackageVersion: Rev. 3, 07/2012; PackageReference: UFQFPN32; PackageDescription: 32-Pin Ultra Thin Fine Pitch Quad Flat No-Lead, 5 x 5 x 0.6 mm Body, 0.5 mm Pitch, Exposed Pad; Supplier 1: Mouser; Supplier Part Number 1: N/A; Core: ARM Cortex-M0; Packing: Tray; Mounting Technology: Surface Mount; ComponentLink1Description: Manufacturer URL; ComponentLink1URL: http://www.st.com/web/en/home.html; ComponentLink2Description: Datasheet; ComponentLink2URL: http://www.st.com/st-web-ui/static/active/en/resource/technical/document/datasheet/DM00065136.pdf; ComponentLink3Description: Package Specification; ComponentLink3URL: http://www.st.com/st-web-ui/static/active/en/resource/technical/document/datasheet/DM00039193.pdf
footprint STM-UFQFPN32_N (QFN, 32-Leads, Body 5.1x5.1mm, Pitch 0.5mm, Thermal Pad 3.5x3.5mm, IPC Medium Density)
footprint STM-UFQFPN32_L (QFN, 32-Leads, Body 5.1x5.1mm, Pitch 0.5mm, Thermal Pad 3.5x3.5mm, IPC High Density)
footprint STM-UFQFPN32_M (QFN, 32-Leads, Body 5.1x5.1mm, Pitch 0.5mm, Thermal Pad 3.5x3.5mm, IPC Low Density)
part A pins: 2 PF0-OSC_IN(PF0) (io) "PF0-OSC_IN(PF0)/OSC_IN", 3 PF1-OSC_OUT(PF1) (io) "PF1-OSC_OUT(PF1)/OSC_OUT", 4 NRST (io) "Device reset input / internal reset output (active low)", 6 PA0 (io) "PA0/TIM2_CH1_ETR,USART1_CTS/ADC_IN0,RTC_TAMP2,WKUP1", 7 PA1 (io) "PA1/TIM2_CH2,EVENTOUT,USART1_RTS/ADC_IN1", 8 PA2 (io) "PA2/TIM2_CH3,USART1_TX/ADC_IN2", 9 PA3 (io) "PA3/TIM2_CH4,USART1_RX/ADC_IN3", 10 PA4 (io) "PA4/SPI1_NSS,I2S1_WS,TIM14_CH1,USART1_CK/ADC_IN4", 11 PA5 (io) "PA5/SPI1_SCK,I2S1_CK,TIM2_CH1_ETR/ADC_IN5", 12 PA6 (io) "PA6/SPI1_MISO,I2S1_MCK,TIM3_CH1,TIM1_BKIN,TIM16_CH1,EVENTOUT/ADC_IN6", 13 PA7 (io) "PA7/SPI1_MOSI,I2S1_SD,TIM3_CH2,TIM14_CH1,TIM1_CH1N,TIM17_CH1,EVENTOUT/ADC_IN7", 14 PB0 (io) "PB0/TIM3_CH3,TIM1_CH2N,EVENTOUT/ADC_IN8", 15 PB1 (io) "PB1/TIM3_CH4,TIM14_CH1,TIM1_CH3N/ADC_IN9", 16 PB2 (io), 18 PA8 (io) "PA8/USART1_CK,TIM1_CH1,EVENTOUT,MCO", 19 PA9 (io) "PA9/USART1_TX,TIM1_CH2,I2C1_SCL", 20 PA10 (io) "PA10/USART1_RX,TIM1_CH3,TIM17_BKIN,I2C1_SDA", 21 PA11 (io) "PA11/USART1_CTS,TIM1_CH4,EVENTOUT", 22 PA12 (io) "PA12/USART1_RTS,TIM1_ETR,EVENTOUT", 23 PA13(SWDAT) (io) "PA13(SWDAT)/IR_OUT,SWDAT", 24 PA14(SWCLK) (io) "PA14(SWCLK)/SWCLK,USART1_TX", 25 PA15 (io) "PA15/SPI1_NSS,I2S1_WS,TIM2_CH_ETR,EVENTOUT,USART1_RX", 26 PB3 (io) "PB3/SPI1_SCK,I2S1_CK,TIM2_CH2,EVENTOUT", 27 PB4 (io) "PB4/SPI1_MISO,I2S1_MCK,TIM3_CH1,EVENTOUT", 28 PB5 (io) "PB5/SPI1_MOSI,I2S1_SD,I2C1_SMBA,TIM16_BKIN,TIM3_CH2", 29 PB6 (io) "PB6/I2C1_SCL,USART1_TX,TIM16_CH1N", 30 PB7 (io) "PB7/I2C1_SDA,USART1_RX,TIM17_CH1N", 31 BOOT0 (in) "Boot memory selection", 32 PB8 (io) "PB8/I2C1_SCL,TIM16_CH1"
part B pins: 1 VDD (power) "Digital power supply", 5 VDDA (power) "Analog power supply", 17 VDD (power) "Digital power supply", 33 VSS/VSSA (power)

## STM32F051C4T6
designator U?
ARM Cortex-M0 32-bit MCU, 16 KB Flash, 4 KB Internal RAM, 39 I/Os, 48-pin LQFP, -40 to 85 degC, Tray; PartNumber: STM32F051C4T6; FLASH Size (Prog) (kB): 16; I/Os (High Current): 39; Internal RAM Size (kB): 4; Operating Frequency(F) (Processor speed) (MHz): 48; Supply Voltage(Vcc) min (V): 2; DatasheetVersion: Rev. 3; PackageVersion: Rev. 6, 06/2013; PackageReference: LQFP48; PackageDescription: 48-Pin Low Profile Quad Flat Package, 7 x 7 mm Body, 0.5 mm Pitch; Supplier 1: Digi-Key; Supplier Part Number 1: 497-12947-ND; Supplier 2: Farnell; Supplier Part Number 2: 2115063; Supplier 3: Newark; Supplier Part Number 3: 05W5800; Supplier 4: Newark; Supplier Part Number 4: 90T0653; Supplier 5: Mouser; Supplier Part Number 5: 511-STM32F051C4T6; Core: ARM Cortex-M0; Packing: Tray; Mounting Technology: Surface Mount; ComponentLink1Description: Manufacturer URL; ComponentLink1URL: http://www.st.com/web/en/home.html; ComponentLink2Description: Datasheet; ComponentLink2URL: http://www.st.com/st-web-ui/static/active/en/resource/technical/document/datasheet/DM00039193.pdf; ComponentLink3Description: Package Specification; ComponentLink3URL: http://www.st.com/st-web-ui/static/active/en/resource/technical/document/datasheet/DM00058181.pdf
footprint STM-LQFP48_N (QFP, 48-Leads, Body 7x7mm, Pitch 0.5mm, IPC Medium Density)
footprint STM-LQFP48_L (QFP, 48-Leads, Body 7x7mm, Pitch 0.5mm, IPC High Density)
footprint STM-LQFP48_M (QFP, 48-Leads, Body 7x7mm, Pitch 0.5mm, IPC Low Density)
part A pins: 2 PC13 (io) "PC13/RTC_TAMP1,RTC_TS,RTC_OUT,WKUP2", 3 PC14-OSC32_IN(PC14) (io) "PC14-OSC32_IN(PC14)/OSC32_IN", 4 PC15-OSC32_OUT(PC15) (io) "PC15-OSC32_OUT(PC15)/OSC32_OUT", 5 PF0-OSC_IN(PF0) (io) "PF0-OSC_IN(PF0)/OSC_IN", 6 PF1-OSC_OUT(PF1) (io) "PF1-OSC_OUT(PF1)/OSC_OUT", 7 NRST (io) "Device  reset  input  /  internal  reset  output  (active  low)", 10 PA0 (io) "PA0/USART2_CTS,TIM2_CH1_ETR,COMP1_OUT,TSC_G1_IO1/ADC_IN0,COMP1_INM6,RTC_TAMP2,WKUP1", 11 PA1 (io) "PA1/USART2_RTS,TIM2_CH2,TSC_G1_IO2,EVENTOUT/ADC_IN1,COMP1_INP", 12 PA2 (io) "PA2/USART2_TX,TIM2_CH3,TIM15_CH1,COMP2_OUT,TSC_G1_IO3/ADC_IN2,COMP2_INM6", 13 PA3 (io) "PA3/USART2_RX,TIM2_CH4,TIM15_CH2,TSC_G1_IO4/ADC_IN3,COMP2_INP", 14 PA4 (io) "PA4/SPI1_NSS/I2S1_WS,USART2_CK,TIM14_CH1,TSC_G2_IO1/ADC_IN4,COMP1_INM4,COMP2_INM4,DAC1_OUT", 15 PA5 (io) "PA5/SPI1_SCK/I2S1_CK,CEC,TIM2_CH1_ETR,TSC_G2_IO2/ADC_IN5,COMP1_INM5,COMP2_INM5", 16 PA6 (io) "PA6/SPI1_MISO/I2S1_MCK,TIM3_CH1,TIM1_BKIN,TIM16_CH1,COMP1_OUT,TSC_G2_IO3,EVENTOUT/ADC_IN6", 17 PA7 (io) "PA7/SPI1_MOSI/I2S1_SD,TIM3_CH2,TIM14_CH1,TIM1_CH1N,TIM17_CH1,COMP2_OUT,TSC_G2_IO4,EVENTOUT/ADC_IN7", 18 PB0 (io) "PB0/TIM3_CH3,TIM1_CH2N,TSC_G3_IO2,EVENTOUT/ADC_IN8", 19 PB1 (io) "PB1/TIM3_CH4,TIM14_CH1,TIM1_CH3N,TSC_G3_IO3/ADC_IN9", 20 PB2 (io) "PB2/TSC_G3_IO4", 21 PB10 (io) "PB10/I2C2_SCL,CEC,TIM2_CH3,TSC_SYNC", 22 PB11 (io) "PB11/I2C2_SDA,TIM2_CH4,TSC_G6_IO1,EVENTOUT", 25 PB12 (io) "PB12/SPI2_NSS,TIM1_BKIN,TSC_G6_IO2,EVENTOUT", 26 PB13 (io) "PB13/SPI2_SCK,TIM1_CH1N,TSC_G6_IO3", 27 PB14 (io) "PB14/SPI2_MISO,TIM1_CH2N,TIM15_CH1,TSC_G6_IO4", 28 PB15 (io) "PB15/SPI2_MOSI,TIM1_CH3N,TIM15_CH1N,TIM15_CH2/RTC_REFIN", 29 PA8 (io) "PA8/USART1_CK,TIM1_CH1,EVENTOUT,MCO", 30 PA9 (io) "PA9/USART1_TX,TIM1_CH2,TIM15_BKIN,TSC_G4_IO1", 31 PA10 (io) "PA10/USART1_RX,TIM1_CH3,TIM17_BKIN,TSC_G4_IO2", 32 PA11 (io) "PA11/USART1_CTS,TIM1_CH4,COMP1_OUT,TSC_G4_IO3,EVENTOUT", 33 PA12 (io) "PA12/USART1_RTS,TIM1_ETR,COMP2_OUT,TSC_G4_IO4,EVENTOUT", 34 PA13(SWDAT) (io) "PA13(SWDAT)/IR_OUT,SWDAT", 35 PF6 (io) "PF6/I2C2_SCL", 36 PF7 (io) "PF7/I2C2_SDA", 37 PA14(SWCLK) (io) "PA14(SWCLK)/USART2_TX,SWCLK", 38 PA15 (io) "PA15/SPI1_NSS/I2S1_WS,USART2_RX,TIM2_CH1_ETR,EVENTOUT", 39 PB3 (io) "PB3/SPI1_SCK/I2S1_CK,TIM2_CH2,TSC_G5_IO1,EVENTOUT", 40 PB4 (io) "PB4/SPI1_MISO/I2S1_MCK,TIM3_CH1,TSC_G5_IO2,EVENTOUT", 41 PB5 (io) "PB5/SPI1_MOSI,I2S1_SD,I2C1_SMBA,TIM16_BKIN,TIM3_CH2", 42 PB6 (io) "PB6/I2C1_SCL,USART1_TX,TIM16_CH1N,TSC_G5_IO3", 43 PB7 (io) "PB7/I2C1_SDA,USART1_RX,TIM17_CH1N,TSC_G5_IO4", 44 BOOT0 (in) "Boot memory selection", 45 PB8 (io) "PB8/I2C1_SCL,CEC,TIM16_CH1,TSC_SYNC", 46 PB9 (io) "PB9/I2C1_SDA,IR_OUT,TIM17_CH1,EVENTOUT"
part B pins: 1 VBAT (power) "Backup power supply", 8 VSSA (power) "Analog ground", 9 VDDA (power) "Analog power supply", 23 VSS (power) "Ground", 24 VDD (power) "Digital power supply", 47 VSS (power) "Ground", 48 VDD (power) "Digital power supply"

## STM32F051C6T6
designator U?
ARM Cortex-M0 32-bit MCU, 32 KB Flash, 4 KB Internal RAM, 39 I/Os, 48-pin LQFP, -40 to 85 degC, Tray; PartNumber: STM32F051C6T6; FLASH Size (Prog) (kB): 32; I/Os (High Current): 39; Internal RAM Size (kB): 4; Operating Frequency(F) (Processor speed) (MHz): 48; Supply Voltage(Vcc) min (V): 2; DatasheetVersion: Rev. 3; PackageVersion: Rev. 6, 06/2013; PackageReference: LQFP48; PackageDescription: 48-Pin Low Profile Quad Flat Package, 7 x 7 mm Body, 0.5 mm Pitch; Supplier 1: Digi-Key; Supplier Part Number 1: 497-12948-ND; Supplier 2: Farnell; Supplier Part Number 2: 2115064; Supplier 3: Newark; Supplier Part Number 3: 05W5801; Supplier 4: Newark; Supplier Part Number 4: 90T0651; Supplier 5: Mouser; Supplier Part Number 5: 511-STM32F051C6T6; Core: ARM Cortex-M0; Packing: Tray; Mounting Technology: Surface Mount; ComponentLink1Description: Manufacturer URL; ComponentLink1URL: http://www.st.com/web/en/home.html; ComponentLink2Description: Datasheet; ComponentLink2URL: http://www.st.com/st-web-ui/static/active/en/resource/technical/document/datasheet/DM00039193.pdf; ComponentLink3Description: Package Specification; ComponentLink3URL: http://www.st.com/st-web-ui/static/active/en/resource/technical/document/datasheet/DM00058181.pdf
footprint STM-LQFP48_N (QFP, 48-Leads, Body 7x7mm, Pitch 0.5mm, IPC Medium Density)
footprint STM-LQFP48_L (QFP, 48-Leads, Body 7x7mm, Pitch 0.5mm, IPC High Density)
footprint STM-LQFP48_M (QFP, 48-Leads, Body 7x7mm, Pitch 0.5mm, IPC Low Density)
part A pins: 2 PC13 (io) "PC13/RTC_TAMP1,RTC_TS,RTC_OUT,WKUP2", 3 PC14-OSC32_IN(PC14) (io) "PC14-OSC32_IN(PC14)/OSC32_IN", 4 PC15-OSC32_OUT(PC15) (io) "PC15-OSC32_OUT(PC15)/OSC32_OUT", 5 PF0-OSC_IN(PF0) (io) "PF0-OSC_IN(PF0)/OSC_IN", 6 PF1-OSC_OUT(PF1) (io) "PF1-OSC_OUT(PF1)/OSC_OUT", 7 NRST (io) "Device  reset  input  /  internal  reset  output  (active  low)", 10 PA0 (io) "PA0/USART2_CTS,TIM2_CH1_ETR,COMP1_OUT,TSC_G1_IO1/ADC_IN0,COMP1_INM6,RTC_TAMP2,WKUP1", 11 PA1 (io) "PA1/USART2_RTS,TIM2_CH2,TSC_G1_IO2,EVENTOUT/ADC_IN1,COMP1_INP", 12 PA2 (io) "PA2/USART2_TX,TIM2_CH3,TIM15_CH1,COMP2_OUT,TSC_G1_IO3/ADC_IN2,COMP2_INM6", 13 PA3 (io) "PA3/USART2_RX,TIM2_CH4,TIM15_CH2,TSC_G1_IO4/ADC_IN3,COMP2_INP", 14 PA4 (io) "PA4/SPI1_NSS/I2S1_WS,USART2_CK,TIM14_CH1,TSC_G2_IO1/ADC_IN4,COMP1_INM4,COMP2_INM4,DAC1_OUT", 15 PA5 (io) "PA5/SPI1_SCK/I2S1_CK,CEC,TIM2_CH1_ETR,TSC_G2_IO2/ADC_IN5,COMP1_INM5,COMP2_INM5", 16 PA6 (io) "PA6/SPI1_MISO/I2S1_MCK,TIM3_CH1,TIM1_BKIN,TIM16_CH1,COMP1_OUT,TSC_G2_IO3,EVENTOUT/ADC_IN6", 17 PA7 (io) "PA7/SPI1_MOSI/I2S1_SD,TIM3_CH2,TIM14_CH1,TIM1_CH1N,TIM17_CH1,COMP2_OUT,TSC_G2_IO4,EVENTOUT/ADC_IN7", 18 PB0 (io) "PB0/TIM3_CH3,TIM1_CH2N,TSC_G3_IO2,EVENTOUT/ADC_IN8", 19 PB1 (io) "PB1/TIM3_CH4,TIM14_CH1,TIM1_CH3N,TSC_G3_IO3/ADC_IN9", 20 PB2 (io) "PB2/TSC_G3_IO4", 21 PB10 (io) "PB10/I2C2_SCL,CEC,TIM2_CH3,TSC_SYNC", 22 PB11 (io) "PB11/I2C2_SDA,TIM2_CH4,TSC_G6_IO1,EVENTOUT", 25 PB12 (io) "PB12/SPI2_NSS,TIM1_BKIN,TSC_G6_IO2,EVENTOUT", 26 PB13 (io) "PB13/SPI2_SCK,TIM1_CH1N,TSC_G6_IO3", 27 PB14 (io) "PB14/SPI2_MISO,TIM1_CH2N,TIM15_CH1,TSC_G6_IO4", 28 PB15 (io) "PB15/SPI2_MOSI,TIM1_CH3N,TIM15_CH1N,TIM15_CH2/RTC_REFIN", 29 PA8 (io) "PA8/USART1_CK,TIM1_CH1,EVENTOUT,MCO", 30 PA9 (io) "PA9/USART1_TX,TIM1_CH2,TIM15_BKIN,TSC_G4_IO1", 31 PA10 (io) "PA10/USART1_RX,TIM1_CH3,TIM17_BKIN,TSC_G4_IO2", 32 PA11 (io) "PA11/USART1_CTS,TIM1_CH4,COMP1_OUT,TSC_G4_IO3,EVENTOUT", 33 PA12 (io) "PA12/USART1_RTS,TIM1_ETR,COMP2_OUT,TSC_G4_IO4,EVENTOUT", 34 PA13(SWDAT) (io) "PA13(SWDAT)/IR_OUT,SWDAT", 35 PF6 (io) "PF6/I2C2_SCL", 36 PF7 (io) "PF7/I2C2_SDA", 37 PA14(SWCLK) (io) "PA14(SWCLK)/USART2_TX,SWCLK", 38 PA15 (io) "PA15/SPI1_NSS/I2S1_WS,USART2_RX,TIM2_CH1_ETR,EVENTOUT", 39 PB3 (io) "PB3/SPI1_SCK/I2S1_CK,TIM2_CH2,TSC_G5_IO1,EVENTOUT", 40 PB4 (io) "PB4/SPI1_MISO/I2S1_MCK,TIM3_CH1,TSC_G5_IO2,EVENTOUT", 41 PB5 (io) "PB5/SPI1_MOSI,I2S1_SD,I2C1_SMBA,TIM16_BKIN,TIM3_CH2", 42 PB6 (io) "PB6/I2C1_SCL,USART1_TX,TIM16_CH1N,TSC_G5_IO3", 43 PB7 (io) "PB7/I2C1_SDA,USART1_RX,TIM17_CH1N,TSC_G5_IO4", 44 BOOT0 (in) "Boot memory selection", 45 PB8 (io) "PB8/I2C1_SCL,CEC,TIM16_CH1,TSC_SYNC", 46 PB9 (io) "PB9/I2C1_SDA,IR_OUT,TIM17_CH1,EVENTOUT"
part B pins: 1 VBAT (power) "Backup power supply", 8 VSSA (power) "Analog ground", 9 VDDA (power) "Analog power supply", 23 VSS (power) "Ground", 24 VDD (power) "Digital power supply", 47 VSS (power) "Ground", 48 VDD (power) "Digital power supply"

## STM32F051C8T6
designator U?
ARM Cortex-M0 32-bit MCU, 64 KB Flash, 8 KB Internal RAM, 39 I/Os, 48-pin LQFP, -40 to 85 degC, Tray; PartNumber: STM32F051C8T6; FLASH Size (Prog) (kB): 64; I/Os (High Current): 39; Internal RAM Size (kB): 8; Operating Frequency(F) (Processor speed) (MHz): 48; Supply Voltage(Vcc) min (V): 2; DatasheetVersion: Rev. 3; PackageVersion: Rev. 6, 06/2013; PackageReference: LQFP48; PackageDescription: 48-Pin Low Profile Quad Flat Package, 7 x 7 mm Body, 0.5 mm Pitch; Supplier 1: Digi-Key; Supplier Part Number 1: 497-12893-ND; Supplier 2: Farnell; Supplier Part Number 2: 2115065; Supplier 3: Newark; Supplier Part Number 3: 05W5802; Supplier 4: Newark; Supplier Part Number 4: 90T0636; Supplier 5: Mouser; Supplier Part Number 5: 511-STM32F051C8T6; Core: ARM Cortex-M0; Packing: Tray; Mounting Technology: Surface Mount; ComponentLink1Description: Manufacturer URL; ComponentLink1URL: http://www.st.com/web/en/home.html; ComponentLink2Description: Datasheet; ComponentLink2URL: http://www.st.com/st-web-ui/static/active/en/resource/technical/document/datasheet/DM00039193.pdf; ComponentLink3Description: Package Specification; ComponentLink3URL: http://www.st.com/st-web-ui/static/active/en/resource/technical/document/datasheet/DM00058181.pdf
footprint STM-LQFP48_N (QFP, 48-Leads, Body 7x7mm, Pitch 0.5mm, IPC Medium Density)
footprint STM-LQFP48_L (QFP, 48-Leads, Body 7x7mm, Pitch 0.5mm, IPC High Density)
footprint STM-LQFP48_M (QFP, 48-Leads, Body 7x7mm, Pitch 0.5mm, IPC Low Density)
part A pins: 2 PC13 (io) "PC13/RTC_TAMP1,RTC_TS,RTC_OUT,WKUP2", 3 PC14-OSC32_IN(PC14) (io) "PC14-OSC32_IN(PC14)/OSC32_IN", 4 PC15-OSC32_OUT(PC15) (io) "PC15-OSC32_OUT(PC15)/OSC32_OUT", 5 PF0-OSC_IN(PF0) (io) "PF0-OSC_IN(PF0)/OSC_IN", 6 PF1-OSC_OUT(PF1) (io) "PF1-OSC_OUT(PF1)/OSC_OUT", 7 NRST (io) "Device  reset  input  /  internal  reset  output  (active  low)", 10 PA0 (io) "PA0/USART2_CTS,TIM2_CH1_ETR,COMP1_OUT,TSC_G1_IO1/ADC_IN0,COMP1_INM6,RTC_TAMP2,WKUP1", 11 PA1 (io) "PA1/USART2_RTS,TIM2_CH2,TSC_G1_IO2,EVENTOUT/ADC_IN1,COMP1_INP", 12 PA2 (io) "PA2/USART2_TX,TIM2_CH3,TIM15_CH1,COMP2_OUT,TSC_G1_IO3/ADC_IN2,COMP2_INM6", 13 PA3 (io) "PA3/USART2_RX,TIM2_CH4,TIM15_CH2,TSC_G1_IO4/ADC_IN3,COMP2_INP", 14 PA4 (io) "PA4/SPI1_NSS/I2S1_WS,USART2_CK,TIM14_CH1,TSC_G2_IO1/ADC_IN4,COMP1_INM4,COMP2_INM4,DAC1_OUT", 15 PA5 (io) "PA5/SPI1_SCK/I2S1_CK,CEC,TIM2_CH1_ETR,TSC_G2_IO2/ADC_IN5,COMP1_INM5,COMP2_INM5", 16 PA6 (io) "PA6/SPI1_MISO/I2S1_MCK,TIM3_CH1,TIM1_BKIN,TIM16_CH1,COMP1_OUT,TSC_G2_IO3,EVENTOUT/ADC_IN6", 17 PA7 (io) "PA7/SPI1_MOSI/I2S1_SD,TIM3_CH2,TIM14_CH1,TIM1_CH1N,TIM17_CH1,COMP2_OUT,TSC_G2_IO4,EVENTOUT/ADC_IN7", 18 PB0 (io) "PB0/TIM3_CH3,TIM1_CH2N,TSC_G3_IO2,EVENTOUT/ADC_IN8", 19 PB1 (io) "PB1/TIM3_CH4,TIM14_CH1,TIM1_CH3N,TSC_G3_IO3/ADC_IN9", 20 PB2 (io) "PB2/TSC_G3_IO4", 21 PB10 (io) "PB10/I2C2_SCL,CEC,TIM2_CH3,TSC_SYNC", 22 PB11 (io) "PB11/I2C2_SDA,TIM2_CH4,TSC_G6_IO1,EVENTOUT", 25 PB12 (io) "PB12/SPI2_NSS,TIM1_BKIN,TSC_G6_IO2,EVENTOUT", 26 PB13 (io) "PB13/SPI2_SCK,TIM1_CH1N,TSC_G6_IO3", 27 PB14 (io) "PB14/SPI2_MISO,TIM1_CH2N,TIM15_CH1,TSC_G6_IO4", 28 PB15 (io) "PB15/SPI2_MOSI,TIM1_CH3N,TIM15_CH1N,TIM15_CH2/RTC_REFIN", 29 PA8 (io) "PA8/USART1_CK,TIM1_CH1,EVENTOUT,MCO", 30 PA9 (io) "PA9/USART1_TX,TIM1_CH2,TIM15_BKIN,TSC_G4_IO1", 31 PA10 (io) "PA10/USART1_RX,TIM1_CH3,TIM17_BKIN,TSC_G4_IO2", 32 PA11 (io) "PA11/USART1_CTS,TIM1_CH4,COMP1_OUT,TSC_G4_IO3,EVENTOUT", 33 PA12 (io) "PA12/USART1_RTS,TIM1_ETR,COMP2_OUT,TSC_G4_IO4,EVENTOUT", 34 PA13(SWDAT) (io) "PA13(SWDAT)/IR_OUT,SWDAT", 35 PF6 (io) "PF6/I2C2_SCL", 36 PF7 (io) "PF7/I2C2_SDA", 37 PA14(SWCLK) (io) "PA14(SWCLK)/USART2_TX,SWCLK", 38 PA15 (io) "PA15/SPI1_NSS/I2S1_WS,USART2_RX,TIM2_CH1_ETR,EVENTOUT", 39 PB3 (io) "PB3/SPI1_SCK/I2S1_CK,TIM2_CH2,TSC_G5_IO1,EVENTOUT", 40 PB4 (io) "PB4/SPI1_MISO/I2S1_MCK,TIM3_CH1,TSC_G5_IO2,EVENTOUT", 41 PB5 (io) "PB5/SPI1_MOSI,I2S1_SD,I2C1_SMBA,TIM16_BKIN,TIM3_CH2", 42 PB6 (io) "PB6/I2C1_SCL,USART1_TX,TIM16_CH1N,TSC_G5_IO3", 43 PB7 (io) "PB7/I2C1_SDA,USART1_RX,TIM17_CH1N,TSC_G5_IO4", 44 BOOT0 (in) "Boot memory selection", 45 PB8 (io) "PB8/I2C1_SCL,CEC,TIM16_CH1,TSC_SYNC", 46 PB9 (io) "PB9/I2C1_SDA,IR_OUT,TIM17_CH1,EVENTOUT"
part B pins: 1 VBAT (power) "Backup power supply", 8 VSSA (power) "Analog ground", 9 VDDA (power) "Analog power supply", 23 VSS (power) "Ground", 24 VDD (power) "Digital power supply", 47 VSS (power) "Ground", 48 VDD (power) "Digital power supply"

## STM32F051C8T7
designator U?
ARM Cortex-M0 32-bit MCU, 64 KB Flash, 8 KB Internal RAM, 39 I/Os, 48-pin LQFP, -40 to 105 degC, Tray; PartNumber: STM32F051C8T7; FLASH Size (Prog) (kB): 64; I/Os (High Current): 39; Internal RAM Size (kB): 8; Operating Frequency(F) (Processor speed) (MHz): 48; Supply Voltage(Vcc) min (V): 2; DatasheetVersion: Rev. 3; PackageVersion: Rev. 6, 06/2013; PackageReference: LQFP48; PackageDescription: 48-Pin Low Profile Quad Flat Package, 7 x 7 mm Body, 0.5 mm Pitch; Supplier 1: Digi-Key; Supplier Part Number 1: STM32F051C8T7-ND; Supplier 2: Farnell; Supplier Part Number 2: 2333345; Supplier 3: Newark; Supplier Part Number 3: 99W9754; Supplier 4: Newark; Supplier Part Number 4: 66W7274; Supplier 5: Mouser; Supplier Part Number 5: 511-STM32F051C8T7; Core: ARM Cortex-M0; Packing: Tray; Mounting Technology: Surface Mount; ComponentLink1Description: Manufacturer URL; ComponentLink1URL: http://www.st.com/web/en/home.html; ComponentLink2Description: Datasheet; ComponentLink2URL: http://www.st.com/st-web-ui/static/active/en/resource/technical/document/datasheet/DM00039193.pdf; ComponentLink3Description: Package Specification; ComponentLink3URL: http://www.st.com/st-web-ui/static/active/en/resource/technical/document/datasheet/DM00058181.pdf
footprint STM-LQFP48_N (QFP, 48-Leads, Body 7x7mm, Pitch 0.5mm, IPC Medium Density)
footprint STM-LQFP48_L (QFP, 48-Leads, Body 7x7mm, Pitch 0.5mm, IPC High Density)
footprint STM-LQFP48_M (QFP, 48-Leads, Body 7x7mm, Pitch 0.5mm, IPC Low Density)
part A pins: 2 PC13 (io) "PC13/RTC_TAMP1,RTC_TS,RTC_OUT,WKUP2", 3 PC14-OSC32_IN(PC14) (io) "PC14-OSC32_IN(PC14)/OSC32_IN", 4 PC15-OSC32_OUT(PC15) (io) "PC15-OSC32_OUT(PC15)/OSC32_OUT", 5 PF0-OSC_IN(PF0) (io) "PF0-OSC_IN(PF0)/OSC_IN", 6 PF1-OSC_OUT(PF1) (io) "PF1-OSC_OUT(PF1)/OSC_OUT", 7 NRST (io) "Device  reset  input  /  internal  reset  output  (active  low)", 10 PA0 (io) "PA0/USART2_CTS,TIM2_CH1_ETR,COMP1_OUT,TSC_G1_IO1/ADC_IN0,COMP1_INM6,RTC_TAMP2,WKUP1", 11 PA1 (io) "PA1/USART2_RTS,TIM2_CH2,TSC_G1_IO2,EVENTOUT/ADC_IN1,COMP1_INP", 12 PA2 (io) "PA2/USART2_TX,TIM2_CH3,TIM15_CH1,COMP2_OUT,TSC_G1_IO3/ADC_IN2,COMP2_INM6", 13 PA3 (io) "PA3/USART2_RX,TIM2_CH4,TIM15_CH2,TSC_G1_IO4/ADC_IN3,COMP2_INP", 14 PA4 (io) "PA4/SPI1_NSS/I2S1_WS,USART2_CK,TIM14_CH1,TSC_G2_IO1/ADC_IN4,COMP1_INM4,COMP2_INM4,DAC1_OUT", 15 PA5 (io) "PA5/SPI1_SCK/I2S1_CK,CEC,TIM2_CH1_ETR,TSC_G2_IO2/ADC_IN5,COMP1_INM5,COMP2_INM5", 16 PA6 (io) "PA6/SPI1_MISO/I2S1_MCK,TIM3_CH1,TIM1_BKIN,TIM16_CH1,COMP1_OUT,TSC_G2_IO3,EVENTOUT/ADC_IN6", 17 PA7 (io) "PA7/SPI1_MOSI/I2S1_SD,TIM3_CH2,TIM14_CH1,TIM1_CH1N,TIM17_CH1,COMP2_OUT,TSC_G2_IO4,EVENTOUT/ADC_IN7", 18 PB0 (io) "PB0/TIM3_CH3,TIM1_CH2N,TSC_G3_IO2,EVENTOUT/ADC_IN8", 19 PB1 (io) "PB1/TIM3_CH4,TIM14_CH1,TIM1_CH3N,TSC_G3_IO3/ADC_IN9", 20 PB2 (io) "PB2/TSC_G3_IO4", 21 PB10 (io) "PB10/I2C2_SCL,CEC,TIM2_CH3,TSC_SYNC", 22 PB11 (io) "PB11/I2C2_SDA,TIM2_CH4,TSC_G6_IO1,EVENTOUT", 25 PB12 (io) "PB12/SPI2_NSS,TIM1_BKIN,TSC_G6_IO2,EVENTOUT", 26 PB13 (io) "PB13/SPI2_SCK,TIM1_CH1N,TSC_G6_IO3", 27 PB14 (io) "PB14/SPI2_MISO,TIM1_CH2N,TIM15_CH1,TSC_G6_IO4", 28 PB15 (io) "PB15/SPI2_MOSI,TIM1_CH3N,TIM15_CH1N,TIM15_CH2/RTC_REFIN", 29 PA8 (io) "PA8/USART1_CK,TIM1_CH1,EVENTOUT,MCO", 30 PA9 (io) "PA9/USART1_TX,TIM1_CH2,TIM15_BKIN,TSC_G4_IO1", 31 PA10 (io) "PA10/USART1_RX,TIM1_CH3,TIM17_BKIN,TSC_G4_IO2", 32 PA11 (io) "PA11/USART1_CTS,TIM1_CH4,COMP1_OUT,TSC_G4_IO3,EVENTOUT", 33 PA12 (io) "PA12/USART1_RTS,TIM1_ETR,COMP2_OUT,TSC_G4_IO4,EVENTOUT", 34 PA13(SWDAT) (io) "PA13(SWDAT)/IR_OUT,SWDAT", 35 PF6 (io) "PF6/I2C2_SCL", 36 PF7 (io) "PF7/I2C2_SDA", 37 PA14(SWCLK) (io) "PA14(SWCLK)/USART2_TX,SWCLK", 38 PA15 (io) "PA15/SPI1_NSS/I2S1_WS,USART2_RX,TIM2_CH1_ETR,EVENTOUT", 39 PB3 (io) "PB3/SPI1_SCK/I2S1_CK,TIM2_CH2,TSC_G5_IO1,EVENTOUT", 40 PB4 (io) "PB4/SPI1_MISO/I2S1_MCK,TIM3_CH1,TSC_G5_IO2,EVENTOUT", 41 PB5 (io) "PB5/SPI1_MOSI,I2S1_SD,I2C1_SMBA,TIM16_BKIN,TIM3_CH2", 42 PB6 (io) "PB6/I2C1_SCL,USART1_TX,TIM16_CH1N,TSC_G5_IO3", 43 PB7 (io) "PB7/I2C1_SDA,USART1_RX,TIM17_CH1N,TSC_G5_IO4", 44 BOOT0 (in) "Boot memory selection", 45 PB8 (io) "PB8/I2C1_SCL,CEC,TIM16_CH1,TSC_SYNC", 46 PB9 (io) "PB9/I2C1_SDA,IR_OUT,TIM17_CH1,EVENTOUT"
part B pins: 1 VBAT (power) "Backup power supply", 8 VSSA (power) "Analog ground", 9 VDDA (power) "Analog power supply", 23 VSS (power) "Ground", 24 VDD (power) "Digital power supply", 47 VSS (power) "Ground", 48 VDD (power) "Digital power supply"